# EAGLE library part OSTVN12A150 (library con-Terminal)
CONN TERM BLOCK 2.54MM 12POS
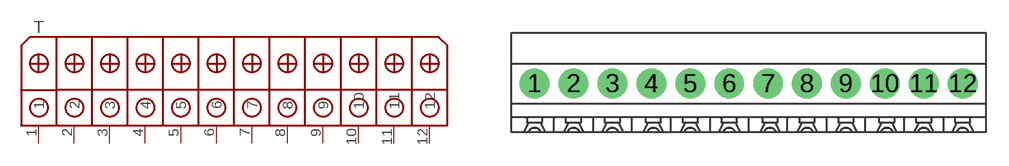
[diagram p0: symbol with the pads of OSTVN12A150; footprint OSTVN12A150]

Designator prefix T

## OSTVN12A150 (DIGIKEY: ED10568-ND; MFR: On shore technology inc; MPN: OSTVN12A150)  [OSTVN12A150]
1  1
2  2
3  3
4  4
5  5
6  6
7  7
8  8
9  9
10  10
11  11
12  12

## Footprint OSTVN12A150 (pad centres in mm)
drill 1.3: 1 -13.97,0; 2 -11.43,0; 3 -8.89,0; 4 -6.35,0; 5 -3.81,0; 6 -1.27,0; 7 1.27,0; 8 3.81,0; 9 6.35,0; 10 8.89,0; 11 11.43,0; 12 13.97,0